# EAGLE library part TL2201 (library switch)
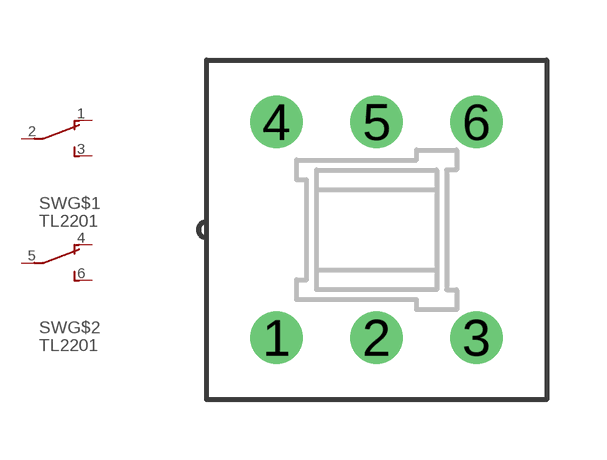
[diagram p0: symbol with the pads of TL2201; footprint TL2201]

Designator prefix SW; gates G$1=DPDT-GATE G$2=DPDT-GATE

## TL2201  [TL2201]
1  G$1:1  pas
2  G$1:2  pas
3  G$1:3  pas
4  G$2:1  pas
5  G$2:2  pas
6  G$2:3  pas

## Footprint TL2201 (pad centres in mm)
drill 0.8: 1 -2.5,-2.7; 2 0,-2.7; 3 2.5,-2.7; 4 -2.5,2.7; 5 0,2.7; 6 2.5,2.7